# Altium schematic symbol library AS312.SchLib: 1 symbol
Pins are listed as number, name and electrical type; pins without a type are passive.

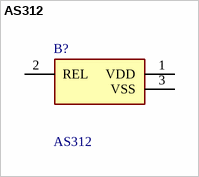
[diagram p0: symbol AS312]

## AS312
designator B?
Through Hole Sensor and Detector Interfaces RoHS; Manufacturer_Name: Senba Optoelectronic; Geometry.Height: 4.4mm; Manufacturer_Part_Number: AS312; Mouser Part Number: *; Mouser Price/Stock: *; Arrow Part Number: *; Arrow Price/Stock: *; Datasheet Link: https://www.lcsc.com/product-detail/C90465.html
footprint AS312
pins: 1 VDD, 2 REL, 3 VSS